# Altium schematic symbol library Custom_MountingHole.SchLib: 1 symbol
Pins are listed as number, name and electrical type; pins without a type are passive.

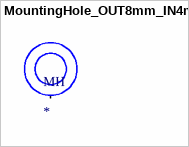
[diagram p0: symbol MountingHole_OUT8mm_IN4mm]

## MountingHole_OUT8mm_IN4mm
designator MH
footprint MountingHole_OUT8mm_IN4mm
pins: 1